# Altium footprint library Capacitance.PcbLib: 9 footprints
Each footprint in its own frame and in the unit in brackets; x right, y up, seen from the top. Pads: shape width x height; smd on the part's side, far side on the other; paste and mask are expansions set on the pad; w line width, h text height; cw(c..) or ccw(c..) is an arc to the next point about the centre after c.
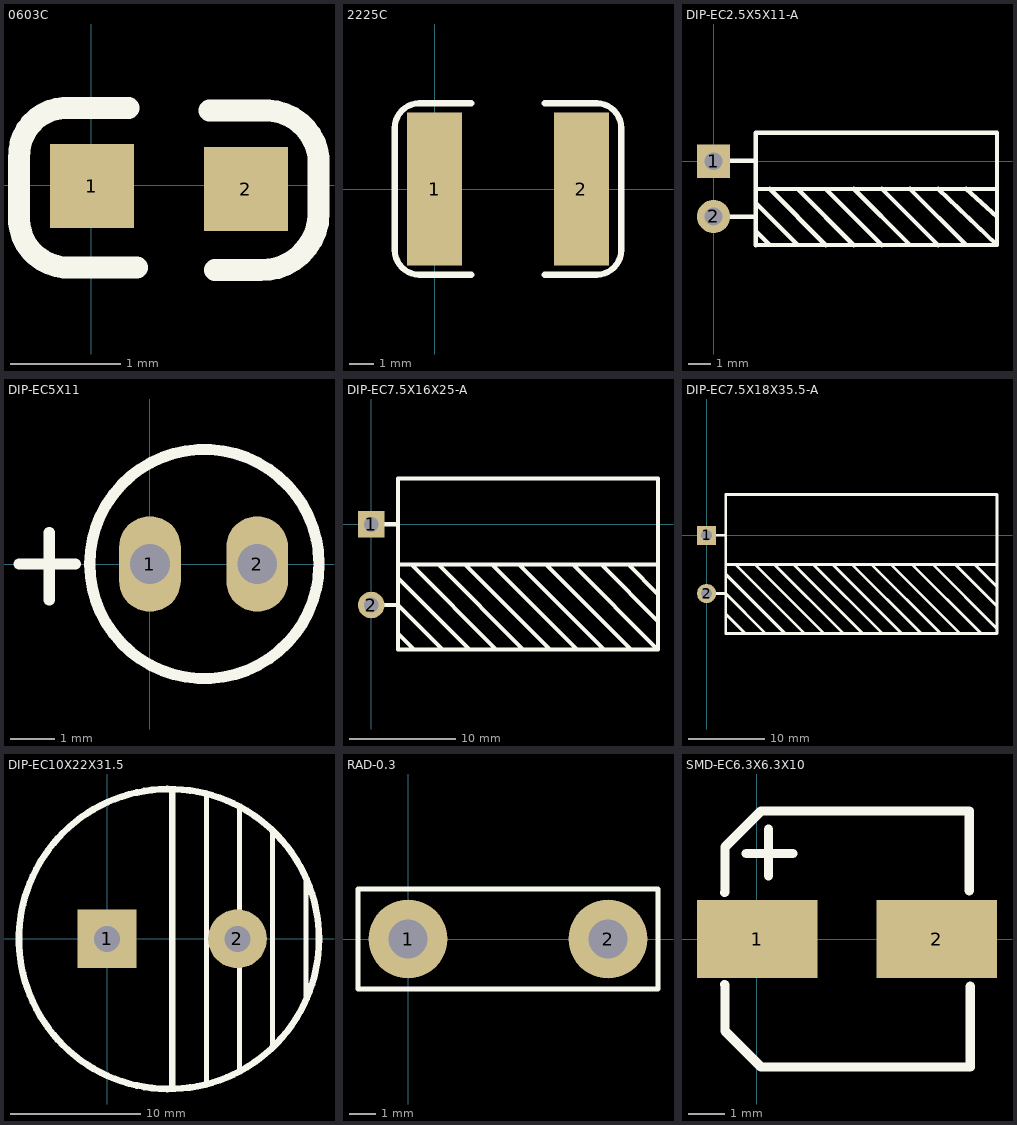
[diagram p0: the footprints below, top view; thin cyan lines are the x and y axes]

## 0603C [mil]
pads (2):
  rect 30x30 smd: 1(0.21,-0.35) 2(55.21,-1.35)
Top Overlay:
  lines w7.87: 13.21,27.65 -9.79,27.65 ccw(c-8.79,10.65) -25.79,9.65 -25.79,-10.35 ccw(c-8.29,-11.85) -9.79,-29.35 16.21,-29.35 ; 42.21,26.65 60.21,26.65 cw(c62.21,7.65) 81.21,9.65 81.21,-10.35 cw(c60.71,-9.85) 60.21,-30.35 44.21,-30.35
3D body "0603 SMD Capacitor.STEP": height 11.89, standoff 0, extent -1.49,-14.99 61.5,16.5

## 2225C [mil]
pads (2):
  rect 90x250 smd: 1(0,0) 2(240,0)
Top Overlay:
  lines w10: 60,-140 -25,-140 cw(c-25,-100) -65,-100 -65,100 cw(c-25,100) -25,140 60,140 ; 180,-140 265,-140 ccw(c265,-100) 305,-100 305,100 ccw(c265,100) 265,140 180,140
3D body "2225C.STEP": height 70.87, standoff 0, extent 7.8,-124.99 232.21,125

## DIP-EC2.5X5X11-A [mm]
pads (2):
  rect 1.5x1.5 hole 0.8: 1(0,0)
  round 1.5 hole 0.8: 2(0,-2.5)
Top Overlay:
  lines w0.2: 0.762,-2.516 1.905,-2.516 ; 0.762,0.016 1.905,0.016 ; 1.905,-3.155 2.54,-3.79 ; 1.905,-1.885 3.81,-3.79 ; 1.905,-1.256 12.827,-1.25 ; 2.54,-1.25 5.08,-3.798 ; 3.81,-1.255 6.35,-3.797 ; 5.08,-1.254 7.62,-3.795 ; 6.35,-1.25 8.89,-3.79 ; 7.62,-1.253 10.16,-3.793 ; 8.89,-1.252 11.43,-3.791 ; 10.16,-1.251 12.827,-3.79 ; 11.43,-1.251 12.827,-2.52 ; 12.827,-3.79 12.827,1.29 1.905,1.29 1.905,-3.802 12.827,-3.79
3D body "CAP 2.5X5X11-H.STEP": height 5.02, standoff -3.48, extent -0.255,-3.74 12.955,1.27

## DIP-EC5X11 [mil]
pads (2):
  oval 55x85 hole 35.43: 1(0,0) 2(95.5,0)
Top Overlay:
  circle w10: c48.5,0 r102.02
  lines w10: -116.5,0 -66.5,0 ; -89.5,-32 -89.5,28
3D body "CAP_5×11.STEP": height 491.5, standoff -158.11, extent -59.77,-111.24 156.77,105.24

## DIP-EC7.5X16X25-A [mm]
pads (2):
  rect 2.5x2.5 hole 1.4: 1(0,0)
  round 2.5 hole 1.4: 2(0,-7.6)
Top Overlay:
  lines w0.381: 1.232,-7.61 2.502,-7.61 6.693,-11.801 ; 1.232,0.01 2.502,0.01 ; 2.502,-10.277 4.026,-11.801 ; 2.502,-5.07 9.233,-11.801 ; 2.502,-3.8 27.013,-3.8 ; 3.772,-3.8 11.773,-11.801 ; 6.312,-3.8 14.313,-11.801 ; 8.852,-3.8 16.853,-11.801 ; 11.392,-3.8 19.393,-11.801 ; 13.932,-3.8 21.869,-11.738 ; 16.472,-3.8 24.409,-11.738 ; 19.012,-3.8 26.941,-11.729 ; 21.679,-3.8 27.013,-9.134 ; 24.219,-3.8 27.013,-6.594 ; 2.502,-11.801 27.013,-11.801 27.013,4.328 2.502,4.328 2.502,-11.801
3D body "CAP 7.5X16X25-H.STEP": height 16.03, standoff -3.47, extent -0.508,-11.688 26.902,4.322

## DIP-EC7.5X18X35.5-A [mm]
pads (2):
  rect 2.5x2.5 hole 1.4: 1(0,0)
  round 2.5 hole 1.4: 2(0,-7.6)
Top Overlay:
  lines w0.381: 1.232,-7.61 2.502,-7.61 7.697,-12.805 ; 1.232,0.01 2.502,0.01 ; 2.502,-10.277 5.013,-12.789 ; 2.502,-5.07 10.227,-12.795 ; 2.502,-3.8 37.942,-3.8 ; 3.772,-3.8 12.727,-12.755 ; 6.312,-3.8 15.287,-12.775 ; 8.852,-3.8 17.817,-12.765 ; 11.392,-3.8 20.377,-12.785 ; 13.932,-3.8 22.907,-12.775 ; 16.472,-3.8 25.437,-12.765 ; 19.012,-3.8 27.997,-12.785 ; 21.552,-3.8 30.527,-12.775 ; 24.092,-3.8 33.057,-12.765 ; 26.842,-3.8 35.812,-12.77 ; 29.582,-3.82 37.922,-12.16 ; 32.559,-3.86 37.893,-9.194 ; 35.099,-3.86 37.893,-6.654 ; 2.502,-12.8 2.502,5.32 37.942,5.32 37.942,-12.8 2.502,-12.8
3D body "CAP 7.5X18X35.5-H.STEP": height 18.03, standoff -3.47, extent -0.508,-12.815 37.902,5.195

## DIP-EC10X22X31.5 [mm]
pads (2):
  rect 4.5x4.5 hole 2: 1(0,0)
  round 4.5 hole 2: 2(10,0)
Top Overlay:
  circle w0.508: c4.752,-0.013 r11.5
  lines w0.381: 7.62,-10.922 7.62,10.922 ; 10.16,-10.16 10.16,10.16 ; 12.7,-8.128 12.7,8.128 ; 15.24,-4.572 15.24,4.572
  lines w0.508: 5,-11.25 5,11.25
3D body "CAP 10X22X31.5.STEP": height 31.53, standoff -3.38, extent -5.969,-10.996 16.041,10.996

## RAD-0.3 [mm]
pads (2):
  round 3 hole 1.5: 1(0,0) 2(7.62,0)
Top Overlay:
  lines w0.2: -1.905,-1.905 9.525,-1.905 9.525,1.905 -1.905,1.905 -1.905,-1.905
3D body "User Library-Capacitor MKT_B32591C3104 (Pitch 10mm).STEP": height 11.5, standoff -7, extent -2.563,-2.46 10.437,2.54

## SMD-EC6.3X6.3X10 [mm]
pads (2):
  rect 3.3x2.132 smd: 1(0.021,0) 2(4.921,0)
Top Overlay:
  lines w0.008: -0.879,-1.244 -0.814,-1.31 -0.814,-2.565 0.121,-3.5 5.836,-3.5
  lines w0.254: -0.879,-1.244 -0.865,-1.259 -0.865,-2.514 0.121,-3.5 5.826,-3.5 5.836,-3.49 ; -0.879,1.27 -0.865,1.285 -0.865,2.515 0.121,3.5 5.81,3.5 5.81,1.321 ; -0.286,2.337 0.984,2.337 ; 0.324,1.728 0.324,2.998 ; 5.836,-3.5 5.836,-1.295
3D body "ALU-D_6.3x6.6x5.4.STEP": height 5.4, standoff 0, extent -1.087,-3.3 5.913,3.3